# Altium footprint library Con_PCB_LIB.PcbLib: 44 footprints (part 2 of 3)
Each footprint in its own frame and in the unit in brackets; x right, y up, seen from the top. Pads: shape width x height; smd on the part's side, far side on the other; paste and mask are expansions set on the pad; w line width, h text height; cw(c..) or ccw(c..) is an arc to the next point about the centre after c.
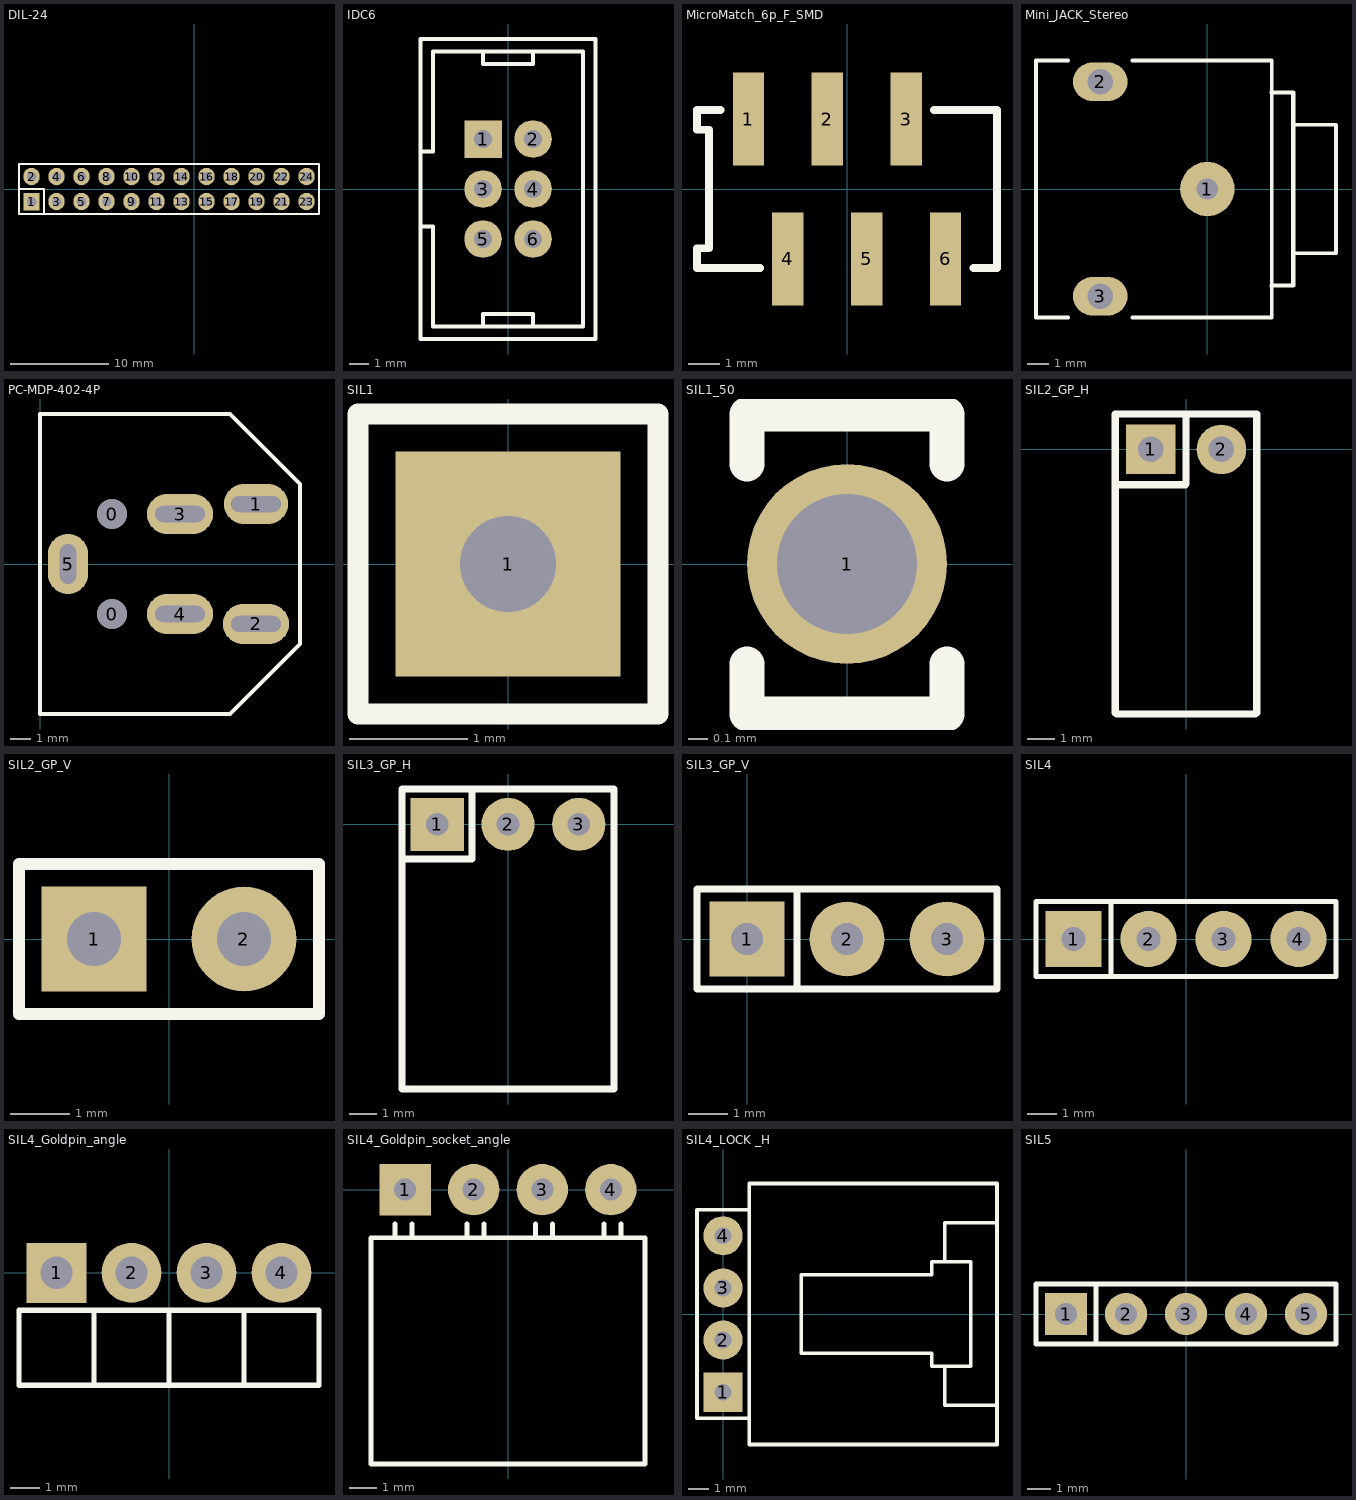
[diagram p1: the footprints below, top view; thin cyan lines are the x and y axes]

## DIL-24 [mil] "Z³acze 24 pin dwie linie, pionowe"
height 15748.03
pads (24):
  rect 65x70 hole 38: 1(-650,-50)
  oval 65x70 hole 38: 2(-650,50) 3(-550,-50) 4(-550,50) 5(-450,-50) 6(-450,50) 7(-350,-50) 8(-350,50) 9(-250,-50) 10(-250,50) 11(-150,-50) 12(-150,50) 13(-50,-50) 14(-50,50) 15(50,-50) 16(50,50) 17(150,-50) 18(150,50) 19(250,-50) 20(250,50) 21(350,-50) 22(350,50) 23(450,-50) 24(450,50)
Top Overlay:
  lines w8: -700,0 -600,0 -600,-100 ; -700,-100 -700,100 500,100 500,-100 -700,-100

## IDC6 [mil] "Z³¹cze IDC 6pin Vertical"
height 400
pads (6):
  rect 75x75 hole 36: 1(-50,100)
  round 75 hole 36: 2(50,100) 3(-50,0) 4(50,0) 5(-50,-100) 6(50,-100)
Top Overlay:
  lines w8: -175,-75 -150,-75 -150,-275 150,-275 150,275 -150,275 -150,75 -175,75 ; -50,-275 -50,-250 50,-250 50,-275 ; -50,275 -50,250 50,250 50,275 ; -175,-300 175,-300 175,300 -175,300 -175,150 -175,-50 -175,-300
3D body "IDC_6.STEP": height 359.27, standoff -121.05, extent -175,-300 197.05,300

## MicroMatch_6p_F_SMD [mm] "MicroMatch - Female- 6 pins - SMD"
height 5.08
pads (6):
  rect 1x3 smd: 1(-3.175,2.25) 2(-0.635,2.25) 3(1.905,2.25) 4(-1.905,-2.25) 5(0.635,-2.25) 6(3.175,-2.25)
Top Overlay:
  lines w0.254: -4.064,2.54 -4.826,2.54 -4.826,1.905 -4.445,1.905 -4.445,-1.905 -4.826,-1.905 -4.826,-2.54 -2.794,-2.54 ; 2.794,2.54 4.826,2.54 4.826,-2.54 4.064,-2.54
3D body "MM_6p_SMD.STEP": height 5.5, standoff 0, extent -4.826,-3.5 4.874,3.5

## Mini_JACK_Stereo [mm] "Gniazdo Mini jack stereo"
height 5.08
pads (3):
  round 2.54 hole 1: 1(0,0)
  oval 2.54x1.8 hole 1.2: 2(-5,5) 3(-5,-5)
Top Overlay:
  lines w0.178: -6.5,-6 -8,-6 -8,6 -6.5,6 ; -3.5,-6 3,-6 3,0 3,6 -3.5,6 ; 4,-3 6,-3 6,3 4,3
  lines w0.203: 3,-4.5 4,-4.5 4,4.5 3,4.5
3D body "MJ_1.STEP": height 5.5, standoff -2.5, extent -8.04,-6 5.46,6

## PC-MDP-402-4P [mm] "Mini DIN 4pin socket"
height 13.97
pads (7):
  round 1.5 hole 1.5: 0(3.6,-2.5) 0(3.6,2.5)
  oval 3.2x2 hole 0.8 slot 2.5 at 0 deg: 1(10.8,3)
  oval 3.3x2 hole 0.8 slot 2.5 at 0 deg: 2(10.8,-3) 3(7,2.5) 4(7,-2.5)
  oval 2x3 hole 0.8 slot 2 at 90 deg: 5(1.4,0)
Top Overlay:
  lines w0.178: 0,-7.5 9.5,-7.5 13,-4 13,4 9.5,7.5 0,7.5 0,0 0,-7.5
3D body "PC-MDP-402_4P.STEP": height 14, standoff -3.5, extent -4,-7.4 13,7.6

## SIL1 [mil] "Obudowa szeregow SIP 1 pin"
pads (1):
  rect 75x75 hole 32: 1(0,0)
Top Overlay:
  lines w7: -50,-50 50,-50 50,50 -50,50 -50,-50
3D body "1pin_straight.STEP": height 325.74, standoff -101.11, extent -49.1,-50.2 51.1,50

## SIL1_50 [mil] "SIL1 pin w rastrze 50mils"
pads (1):
  round 40 hole 28: 1(0,0)
Top Overlay:
  lines w7: -20,-20 -20,-30 20,-30 20,-20 ; -20,20 -20,30 20,30 20,20

## SIL2_GP_H [mil] "Goldpin pozioma 2PIN"
height 150
pads (2):
  rect 70x70 hole 36: 1(-50,0)
  round 70 hole 36: 2(50,0)
Top Overlay:
  lines w10: 0,49.21 0,-49.21 -0.79,-50 -100,-50 ; -100,-50 -100,-372.44 -98.43,-374.02 98.43,-374.02 100,-372.44 100,-50 100,50 -100,50 -100,-50
3D body "2pin_angle.STEP": height 100.58, standoff -140.94, extent -99.31,-377.63 100.89,16.15

## SIL2_GP_V [mil] "Goldpin pion 2PIN"
height 350
pads (2):
  rect 70x70 hole 36: 1(-50,0)
  round 70 hole 36: 2(50,0)
Top Overlay:
  lines w8: -100,-50 -100,50 100,50 100,-50 -100,-50
3D body "2pin_straight.STEP": height 325.74, standoff -101.11, extent -100.09,-50.09 100.11,50.59

## SIL3_GP_H [mil] "Goldpin poziom 3PIN"
height 150
pads (3):
  rect 75x75 hole 32: 1(-100,0)
  round 75 hole 32: 2(0,0) 3(100,0)
Top Overlay:
  lines w10: -147.64,-49.21 -50.79,-49.21 -50.79,48.43 ; -150,-374.02 150,-374.02 150,50 -150,50 -150,-374.02
3D body "3pin_angle.STEP": height 101.06, standoff -140.94, extent -148.52,-377.63 151.68,16.15

## SIL3_GP_V [mil] "Goldpin pion 3pin"
height 350
pads (3):
  rect 75x75 hole 32: 1(0,0)
  round 75 hole 32: 2(100,0) 3(200,0)
Top Overlay:
  lines w7: 50,-50 50,50 ; -50,-50 250,-50 250,50 -50,50 -50,-50
3D body "3pin_straight.STEP": height 325.74, standoff -101.11, extent -50.09,-50.09 250.1,51.07

## SIL4 [mil] "Obudowa szeregowa SIP 4 pin"
pads (4):
  rect 75x75 hole 32: 1(-150,0)
  round 75 hole 32: 2(-50,0) 3(50,0) 4(150,0)
Top Overlay:
  lines w7: -100,-50 -100,50 ; -200,-50 -200,50 200,50 200,-50 -200,-50
3D body "4pin_straight.STEP": height 323.74, standoff -103.11, extent -200.09,-50.09 200.1,51.55

## SIL4_Goldpin_angle [mil] "Goldpin x4 k¹towy"
height 100
pads (4):
  rect 80x80 hole 43: 1(-150,0)
  round 80 hole 43: 2(-50,0) 3(50,0) 4(150,0)
Top Overlay:
  lines w7: -100,-150 -100,-50 ; 0,-150 0,-50 ; 100,-150 100,-50 ; -200,-150 -200,-50 200,-50 200,-150 -200,-150
3D body "4pin_angle.STEP": height 101.54, standoff -140.94, extent -200.1,-378.78 200.1,15

## SIL4_Goldpin_socket_angle [mil] "Gniazdo goldpin k¹towe 4pin"
height 3937.01
pads (4):
  rect 75x75 hole 32: 1(-150,0)
  round 75 hole 32: 2(-50,0) 3(50,0) 4(150,0)
Top Overlay:
  lines w7: -165,-70 -165,-50 ; -140,-70 -140,-50 ; -60,-70 -60,-50 ; -35,-70 -35,-50 ; 40,-70 40,-50 ; 65,-70 65,-50 ; 140,-70 140,-50 ; 165,-70 165,-50 ; -200,-400 -200,-70 200,-70 200,-400 -200,-400
3D body "4pin_angle_socket.STEP": height 101, standoff -134.03, extent -200,-400.87 200,7

## SIL4_LOCK _H [mil] "Sil 4 z zatrzaskiem poziomy"
height 7874.02
pads (4):
  rect 75x75 hole 32: 1(0,-150)
  round 75 hole 32: 2(0,-50) 3(0,50) 4(0,150)
Top Overlay:
  lines w7: 50,-200 -50,-200 -50,200 50,200 ; 525,-175 425,-175 425,-100 ; 525,175 425,175 425,100 ; 425,-100 400,-100 400,-75 150,-75 150,75 400,75 400,100 425,100 ; 425,-100 475,-100 475,100 425,100 ; 50,-250 50,250 525,250 525,-250 50,-250

## SIL5 [mil] "Obudowa szeregowa 5pin"
pads (5):
  rect 70x70 hole 36: 1(-200,0)
  round 70 hole 36: 2(-100,0) 3(0,0) 4(100,0) 5(200,0)
Top Overlay:
  lines w8: -150,-50 -150,50 ; -250,-50 250,-50 250,50 -250,50 -250,-50
3D body "5pin_straight.STEP": height 323.74, standoff -103.11, extent -250.09,-50.09 250.1,52.03